# Altium schematic symbol library MINI-360.SchLib: 1 symbol
Pins are listed as number, name and electrical type; pins without a type are passive.

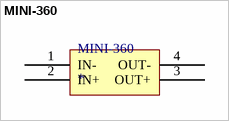
[diagram p0: symbol MINI-360]

## MINI-360
designator MINI-360
footprint MINI-360
pins: 1 IN- (power), 2 IN+, 3 OUT+ (power), 4 OUT- (power)